# EAGLE library part ZR_S9B-ZR (library CASE-JST)
JST ZR Connector, through hole, 9 pin, side entry Description: JST ZR connector with 1.5 mm pitch, through hole version, 9 pin, side entry. Links: Datasheet <http://www.jst-mfg.com/product/pdf/eng/eZH.pdf>
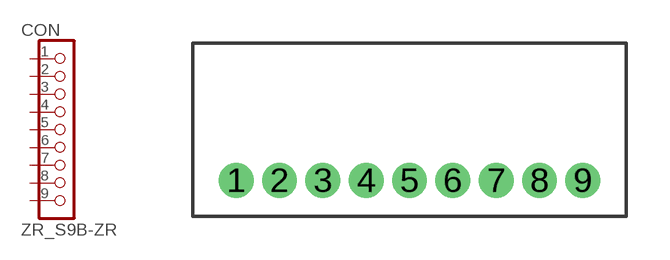
[diagram p3: symbol with the pads of S9B-ZR; footprint S9B-ZR]

Designator prefix CON

## ZR_S9B-ZR  [S9B-ZR]
1  1  pas
2  2  pas
3  3  pas
4  4  pas
5  5  pas
6  6  pas
7  7  pas
8  8  pas
9  9  pas

## Footprint S9B-ZR (pad centres in mm)
JST S9B-ZR Datasheet <http://www.jst-mfg.com/product/pdf/eng/eZH.pdf>
drill 0.7: 1 -6,0; 2 -4.5,0; 3 -3,0; 4 -1.5,0; 5 0,0; 6 1.5,0; 7 3,0; 8 4.5,0; 9 6,0